# EAGLE library part UC2640B (library satcam)
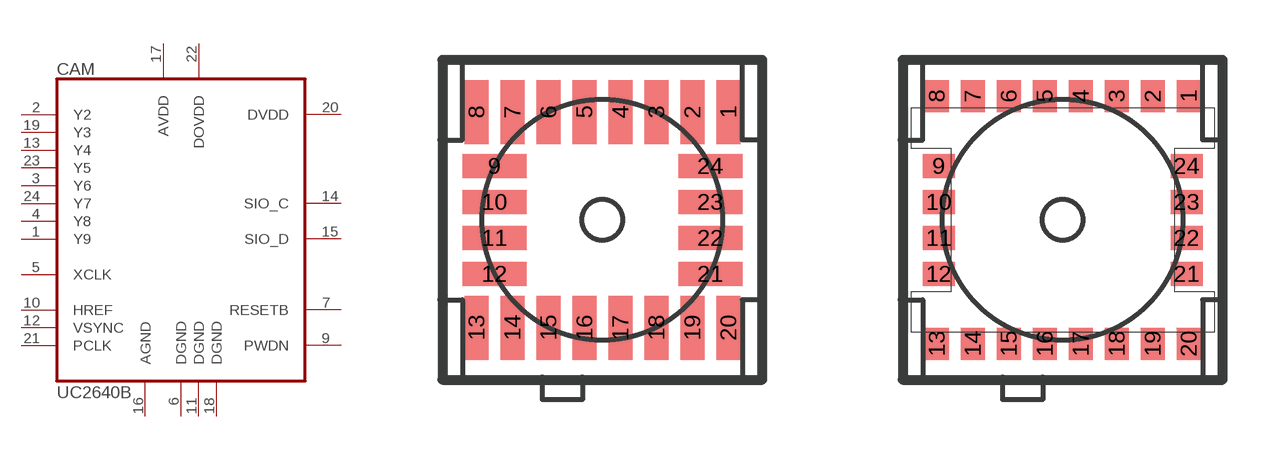
[diagram p0: symbol with the pads of UC2640B; footprints UC2640B, UC2640B2]

Designator prefix CAM

## UC2640B  [UC2640B]
1  Y9  out
2  Y2  out
3  Y6  out
4  Y8  out
5  XCLK  in
6  DGND  pwr
7  RESETB  in
9  PWDN  in
10  HREF  out
11  DGND  pwr
12  VSYNC  out
13  Y4  out
14  SIO_C
15  SIO_D
16  AGND  pwr
17  AVDD  pwr
18  DGND  pwr
19  Y3  out
20  DVDD  pas
21  PCLK  out
22  DOVDD  pwr
23  Y5  out
24  Y7  out

## UC2640B-V2  [UC2640B2]
Pads as for UC2640B

## Footprint UC2640B (pad centres in mm)
smd 0.6 x 1.6: 1 3.15,2.7; 2 2.25,2.7; 3 1.35,2.7; 4 0.45,2.7; 5 -0.45,2.7; 6 -1.35,2.7; 7 -2.25,2.7; 8 -3.15,2.7; 13 -3.15,-2.7; 14 -2.25,-2.7; 15 -1.35,-2.7; 16 -0.45,-2.7; 17 0.45,-2.7; 18 1.35,-2.7; 19 2.25,-2.7; 20 3.15,-2.7
smd 1.6 x 0.6: 9 -2.7,1.35; 10 -2.7,0.45; 11 -2.7,-0.45; 12 -2.7,-1.35; 21 2.7,-1.35; 22 2.7,-0.45; 23 2.7,0.45; 24 2.7,1.35

## Footprint UC2640B2 (pad centres in mm)
smd 0.6 x 0.8: 1 3.15,3.1; 2 2.25,3.1; 3 1.35,3.1; 4 0.45,3.1; 5 -0.45,3.1; 6 -1.35,3.1; 7 -2.25,3.1; 8 -3.15,3.1; 13 -3.15,-3.1; 14 -2.25,-3.1; 15 -1.35,-3.1; 16 -0.45,-3.1; 17 0.45,-3.1; 18 1.35,-3.1; 19 2.25,-3.1; 20 3.15,-3.1
smd 0.8 x 0.6: 9 -3.1,1.35; 10 -3.1,0.45; 11 -3.1,-0.45; 12 -3.1,-1.35; 21 3.1,-1.35; 22 3.1,-0.45; 23 3.1,0.45; 24 3.1,1.35